# Altium footprint library 5-535541-7.PcbLib: 1 footprints
Each footprint in its own frame and in the unit in brackets; x right, y up, seen from the top. Pads: shape width x height; smd on the part's side, far side on the other; paste and mask are expansions set on the pad; w line width, h text height; cw(c..) or ccw(c..) is an arc to the next point about the centre after c.
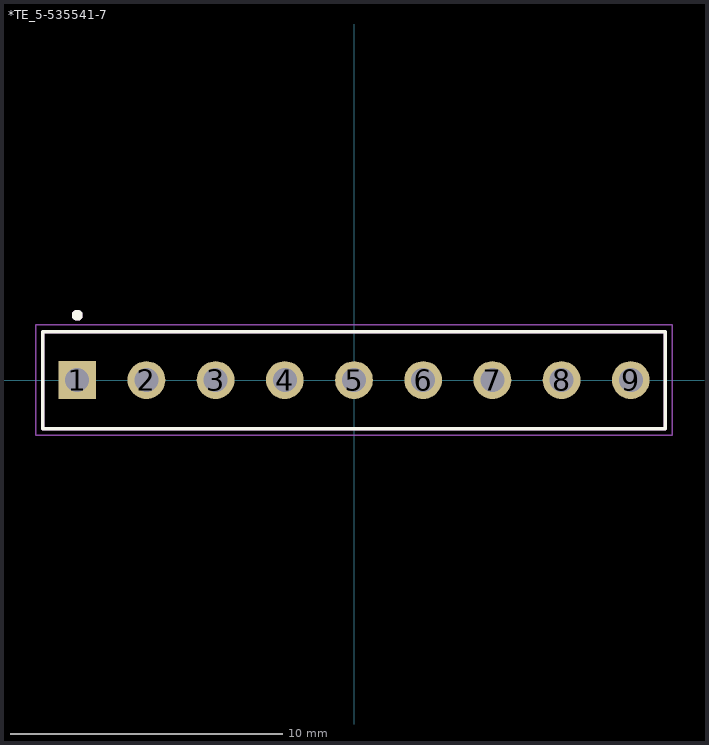
[diagram p0: the footprint, top view; thin cyan lines are the x and y axes]

## *TE_5-535541-7 [mm]
pads (9):
  rect 1.388x1.388 hole 0.88: 1(-10.16,0)
  round 1.388 hole 0.88: 2(-7.62,0) 3(-5.08,0) 4(-2.54,0) 5(0,0) 6(2.54,0) 7(5.08,0) 8(7.62,0) 9(10.16,0)
Top Overlay:
  circle w0.2: c-10.16,2.38 r0.1
  lines w0.127: -11.43,-1.78 11.43,-1.78 11.43,1.78 -11.43,1.78 -11.43,-1.78
Mechanical 13:
  circle w0.2: c-10.16,2.38 r0.1
  circle w0.2: c-10.16,2.38 r0.1
  lines w0.127: -11.43,-1.78 11.43,-1.78 ; -11.43,-1.78 -11.43,1.78 ; -11.43,-1.78 11.43,-1.78 ; -11.43,-1.78 -11.43,1.78 ; -11.43,1.78 11.43,1.78 ; -11.43,1.78 11.43,1.78 ; 11.43,-1.78 11.43,1.78 ; 11.43,-1.78 11.43,1.78
Mechanical 15:
  lines w0.05: -11.68,-2.03 11.68,-2.03 11.68,2.03 -11.68,2.03 -11.68,-2.03